# EAGLE library part INA219-D (library space-concordia-power)
INA219-DCN voltage/current/power monitor with I2C interface SO-8 package
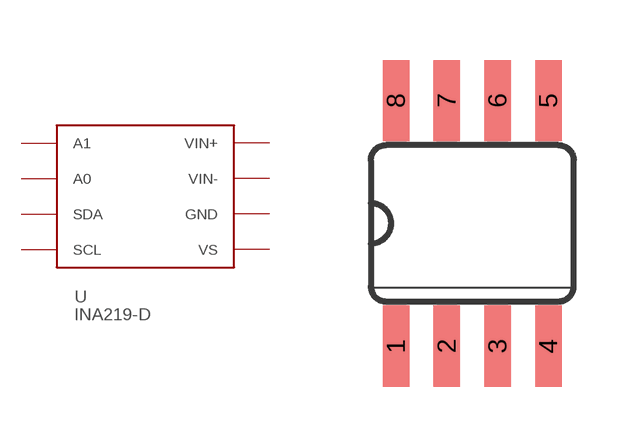
[diagram p6: symbol with the pads of SO08; footprint SO08]

Designator prefix -

## INA219-D  [SO08]
1  A1
2  A0
3  SDA
4  SCL
5  VS
6  GND
7  VIN-
8  VIN+

## Footprint SO08 (pad centres in mm)
Small Outline package 8 150 mil
smd 0.66 x 2.032: 1 -1.905,-3.073; 2 -0.635,-3.073; 3 0.635,-3.073; 4 1.905,-3.073; 5 1.905,3.073; 6 0.635,3.073; 7 -0.635,3.073; 8 -1.905,3.073